# Altium schematic symbol library Soft_Latch_11082021.SchLib: 9 symbols
Pins are listed as number, name and electrical type; pins without a type are passive.

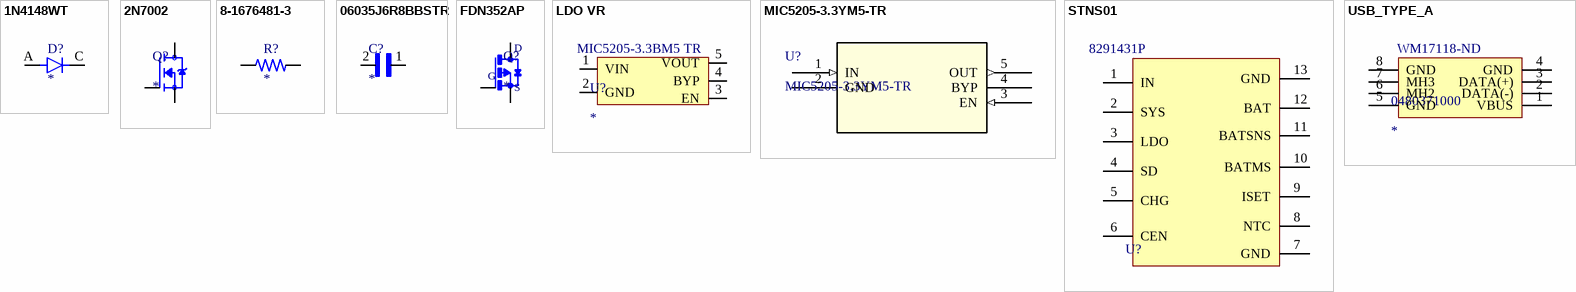
[diagram p0: symbols 1N4148WT to USB_TYPE_A]

## 1N4148WT
designator D?
Diode Standard 100V 150mA Surface Mount SOD-123; MP: 1N4148W+; MF: Micro Commercial; Package: SOD-123 Multicomp; Value: *; Availability: Unavailable; Price: None; SnapEDA_Link: https://www.snapeda.com/parts/1N4148W%2B/Micro%20Commercial/view-part/2755184/?ref=snap
footprint SODFL1608X70N
pins: A, C

## 2N7002
designator Q?
N-Channel 60V 280mA (Ta) 350mW (Ta) Surface Mount SOT-23-3 (TO-236); MP: 2N7002; MF: ON Semiconductor; SnapEDA_Link: https://www.snapeda.com/parts/2N7002/ON%20Semiconductor/view-part/4449003/?ref=snap; Purchase-URL: https://pricing.snapeda.com/search/part/2N7002/?ref=eda; Value: *; Availability: In Stock; Check_prices: https://www.snapeda.com/parts/2N7002/ON%20Semiconductor/view-part/4449003/?ref=eda; Package: SOT-23 Multicomp; Price: None
footprint SOT95P240X111-3N
pins: 1 G, 2 S, 3 D

## 8-1676481-3
designator R?
RES SMD 22K OHM 0.1% 1/16W 0603; MF: TE Connectivity; Voltage_Rating: 50 V; Power_Rating: .063 W; MP: 8-1676481-3; Tolerance: .1%; EU_RoHS_Compliance: Compliant; SnapEDA_Link: https://www.snapeda.com/parts/8-1676481-3/TE%20Connectivity/view-part/2208246/?ref=snap; Resistance: 22K; Package: 0603; Price: None; Availability: Warning; Value: *
footprint RES
pins: 1, 2

## 06035J6R8BBSTR
designator C?
RF/Microwave Capacitor; Capacitance:6.8pF; Capacitance Tolerance:Â± 0.1pF; Series:Accu-P; Voltage Rating:50VDC; Capacitor Dielectric Type:Thin Film; Package/Case:0603; Termination Type:SMD; Leaded Process Compatible:Yes ;RoHS Compliant: Yes; MP: 06035J6R8BBSTR; Package: None; Price: None; Value: *; Availability: Unavailable
footprint CAP
pins: 1, 2

## FDN352AP
designator Q?
P-Channel 30V 1.3A _Ta_ 500mW _Ta_ Surface Mount SuperSOT-3; MF: ON Semiconductor; MP: FDN352AP; SnapEDA_Link: https://www.snapeda.com/parts/FDN352AP/ON%20Semiconductor/view-part/1400764/?ref=snap; Value: *; Price: None; Availability: Unavailable; Package: SC-59 ON Semiconductor
footprint SSOT-3
pins: 1 G, 2 S, 3 D

## LDO VR
designator U?  Supplier Part Number 1: MIC5205-3.3BM5 TR
IC REG LDO 3.3V 0.15A SOT23-5; Manufacturer: Microchip; Manufacturer Part Number: MIC5205-3.3BM5TR; Supplier 1: Arrow Electronics; RoHS: Yes; Category: Voltage Regulators - Linear; ComponentLink1URL: https://datasheet.ciiva.com/2071/mic5205-2071755.pdf?src-supplier=Digi-Key; ComponentLink1Description: https://datasheet.ciiva.com/2071/mic5205-2071755.pdf?src-supplier=Digi-Key
pins: 1 VIN, 2 GND, 3 EN, 4 BYP, 5 VOUT

## MIC5205-3.3YM5-TR
designator U?
No Description Available; Mfr_Name: Microchip; Copyright: Copyright (C) 2021 Ultra Librarian. All rights reserved.; Manufacturer_Part_Number: MIC5205-3.3YM5-TR; RefDes: RefDes; Type: DEV
footprint SOT-23-5_MC_MCH-M
pins: 1 IN (in), 2 GND (power), 3 EN (in), 4 BYP, 5 OUT (out)

## STNS01
designator U?  Supplier Part Number 1: 8291431P  (hidden comment: *)
IC LI-ION BATT CHARGER LDO 12DFN; Manufacturer: STMicroelectronics; Manufacturer Part Number: STNS01PUR; Output Voltage: 3.1V; Output Current: 200mA; Min Supply Voltage: 4.55V; Max Supply Voltage: 5.4V; Operating Supply Current: 1.4mA; Number of Cells: 1; Max Output Voltage: 3.193V; Min Output Voltage: 3.007V; Max Charge Current: 400mA; ComponentLink1Description: New link; ComponentLink1URL: *; Supplier 1: RSComponents; RoHS: Yes; Category: Battery Management; Stock 1: 1; Pricing 1: 5=2,20000, 10=1,87200, 100=1,30300, 500=1,26400 (USD); Mount: Surface Mount; Case/Package: DFN; Number of Pins: 12; Contact Plating: Tin,Matte; Min Operating Temperature: -40°C; Max Operating Temperature: 85°C; Packaging: Tape and Reel; Package Quantity: 3000; Max Output Current: 200mA; Length: 3.15mm; Width: 3.15mm; Height: 0.75mm; Radiation Hardening: No; REACH SVHC: No SVHC; Lead Free: Lead Free; RoHS Compliant: Yes; ComponentLink2URL: https://datasheet.ciiva.com/18617/dm00085223-18617622.pdf?src-supplier=Digi-Key; ComponentLink2Description: https://datasheet.ciiva.com/18617/dm00085223-18617622.pdf?src-supplier=Digi-Key; ComponentLink3URL: https://datasheet.ciiva.com/24021/dm00085223-24021750.pdf?src-supplier=Mouser; ComponentLink3Description: https://datasheet.ciiva.com/24021/dm00085223-24021750.pdf?src-supplier=Mouser; ComponentLink4URL: https://datasheet.ciiva.com/41458/001184952-da-01-en-ic-li-ion-batt-char-stns01pur-dfn-12-stm-41458066.pdf?src-supplier=Conrad; ComponentLink4Description: https://datasheet.ciiva.com/41458/001184952-da-01-en-ic-li-ion-batt-char-stns01pur-dfn-12-stm-41458066.pdf?src-supplier=Conrad; ComponentLink5URL: https://datasheet.ciiva.com/18617/dm00085223-18617623.pdf?src-supplier=Digi-Key; ComponentLink5Description: https://datasheet.ciiva.com/18617/dm00085223-18617623.pdf?src-supplier=Digi-Key; ComponentLink6URL: https://datasheet.ciiva.com/18617/dm00085223-18617624.pdf?src-supplier=Digi-Key; ComponentLink6Description: https://datasheet.ciiva.com/18617/dm00085223-18617624.pdf?src-supplier=Digi-Key
pins: 1 IN, 2 SYS, 3 LDO, 4 SD, 5 CHG, 6 CEN, 7 GND, 8 NTC, 9 ISET, 10 BATMS, 11 BATSNS, 12 BAT, 13 GND

## USB_TYPE_A
designator 0480371000  Supplier Part Number 1: WM17118-ND
Conn USB 2.0 Type A PL 4 POS Solder RA SMD 4 Terminal 1 Port Tray; Manufacturer: Molex; Manufacturer Part Number: 0480371000; Number of Terminals/Pins: 4; Number of Ports: 1; Max Voltage Rating (AC): 150V; Supplier 1: Digi-Key; RoHS: Yes; Category: Connectors; Stock 1: 23319; Pricing 1: 1=1,33000, 10=1,09800, 230=0,91526, 1000=0,73221, 3000=0,66356 (USD); Mount: Surface Mount,Horizontal; Contact Material: Brass; Contact Plating: Gold; Housing Material: Thermoplastic; Min Operating Temperature: -20°C; Max Operating Temperature: 85°C; Packaging: Tray; Package Quantity: 1000; Connector Type: USB; Number of Contacts: 4; Termination: Solder; Orientation: Right Angle; Series: -; Features: Shielded; Length: 12.7mm; Depth: 18.8mm; RoHS Compliant: Yes; ComponentLink1URL: https://datasheet.ciiva.com/15181/getdatasheetpartid-168028-15181217.pdf?src-supplier=Verical; ComponentLink1Description: https://datasheet.ciiva.com/15181/getdatasheetpartid-168028-15181217.pdf?src-supplier=Verical; ComponentLink2URL: https://datasheet.ciiva.com/851/480371000-sd-851331.pdf?src-supplier=Digi-Key; ComponentLink2Description: https://datasheet.ciiva.com/851/480371000-sd-851331.pdf?src-supplier=Digi-Key; ComponentLink3URL: https://datasheet.ciiva.com/3897/88000480371000-io-nectors-3897640.pdf?src-supplier=Arrow+Electronics; ComponentLink3Description: https://datasheet.ciiva.com/3897/88000480371000-io-nectors-3897640.pdf?src-supplier=Arrow+Electronics
pins: 1 VBUS, 2 DATA(-), 3 DATA(+), 4 GND, 5 GND, 6 MH2, 7 MH3, 8 GND